# Altium schematic symbol library L1HX-5070200000000.SchLib: 1 symbol
Pins are listed as number, name and electrical type; pins without a type are passive.

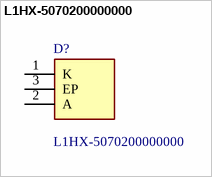
[diagram p0: symbol L1HX-5070200000000]

## L1HX-5070200000000
designator D?
High Power LEDs - White White, 5000K, 70CRI LUXEON HL2X; Manufacturer_Name: Lumileds; Geometry.Height: 2.385mm; Manufacturer_Part_Number: L1HX-5070200000000; Mouser Part Number: 997-L1HX507020; Mouser Price/Stock: https://www.mouser.co.uk/ProductDetail/Lumileds/L1HX-5070200000000?qs=GedFDFLaBXFEeKINQ8IUQQ%3D%3D; Arrow Part Number: *; Arrow Price/Stock: *; Datasheet Link: https://www.mouser.com/datasheet/2/602/DS288_luxeon_hl2x_datasheet-1915899.pdf
footprint L1HX5070200000000
pins: 1 K, 2 A, 3 EP